# EAGLE library part CC-EXP430F6137RF9-LCD (library LCD)
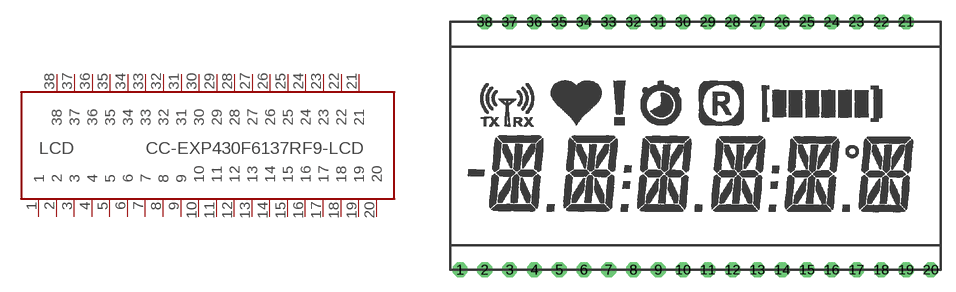
[diagram p0: symbol with the pads of CC-EXP430F6137RF9-LCD; footprint CC-EXP430F6137RF9-LCD]

Designator prefix LCD

## CC-EXP430F6137RF9-LCD  [CC-EXP430F6137RF9-LCD]
1  1
2  2
3  3
4  4
5  5
6  6
7  7
8  8
9  9
10  10
11  11
12  12
13  13
14  14
15  15
16  16
17  17
18  18
19  19
20  20
21  21
22  22
23  23
24  24
25  25
26  26
27  27
28  28
29  29
30  30
31  31
32  32
33  33
34  34
35  35
36  36
37  37
38  38

## Footprint CC-EXP430F6137RF9-LCD (pad centres in mm)
drill 1 octagon: 1 -24.13,-12.7; 2 -21.59,-12.7; 3 -19.05,-12.7; 4 -16.51,-12.7; 5 -13.97,-12.7; 6 -11.43,-12.7; 7 -8.89,-12.7; 8 -6.35,-12.7; 9 -3.81,-12.7; 10 -1.27,-12.7; 11 1.27,-12.7; 12 3.81,-12.7; 13 6.35,-12.7; 14 8.89,-12.7; 15 11.43,-12.7; 16 13.97,-12.7; 17 16.51,-12.7; 18 19.05,-12.7; 19 21.59,-12.7; 20 24.13,-12.7; 21 21.59,12.7; 22 19.05,12.7; 23 16.51,12.7; 24 13.97,12.7; 25 11.43,12.7; 26 8.89,12.7; 27 6.35,12.7; 28 3.81,12.7; 29 1.27,12.7; 30 -1.27,12.7; 31 -3.81,12.7; 32 -6.35,12.7; 33 -8.89,12.7; 34 -11.43,12.7; 35 -13.97,12.7; 36 -16.51,12.7; 37 -19.05,12.7; 38 -21.59,12.7